# Altium schematic symbol library Bourns trimmer 200R.SchLib: 1 symbol
Pins are listed as number, name and electrical type; pins without a type are passive.

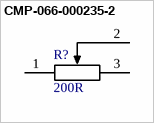
[diagram p0: symbol CMP-066-000235-2]

## CMP-066-000235-2
designator R?, comment 200R
RESADJ 200ohm Cermet 25 turns; Manufacturer: Bourns Incorporated; Tolerance: ±10%; TemperatureCoeff: ±100ppm/°C; IsStocked: 1; PN: PN-614445; Power: 500mW; TemperatureRange: -55°C to +125°C; Supplier 1: Farnell; Category: Passives; Supplier Price 1: 3.36; Value: 200R; Supplier Part Number 1: 9353747; SubCategory: Resistances ajustables
footprint Bourns_3299W (Bourns Single-turn trimpot 2.54mm pitch)
pins: 1, 2, 3